# Altium footprint library GY-521.PcbLib: 1 footprints
Each footprint in its own frame and in the unit in brackets; x right, y up, seen from the top. Pads: shape width x height; smd on the part's side, far side on the other; paste and mask are expansions set on the pad; w line width, h text height; cw(c..) or ccw(c..) is an arc to the next point about the centre after c.
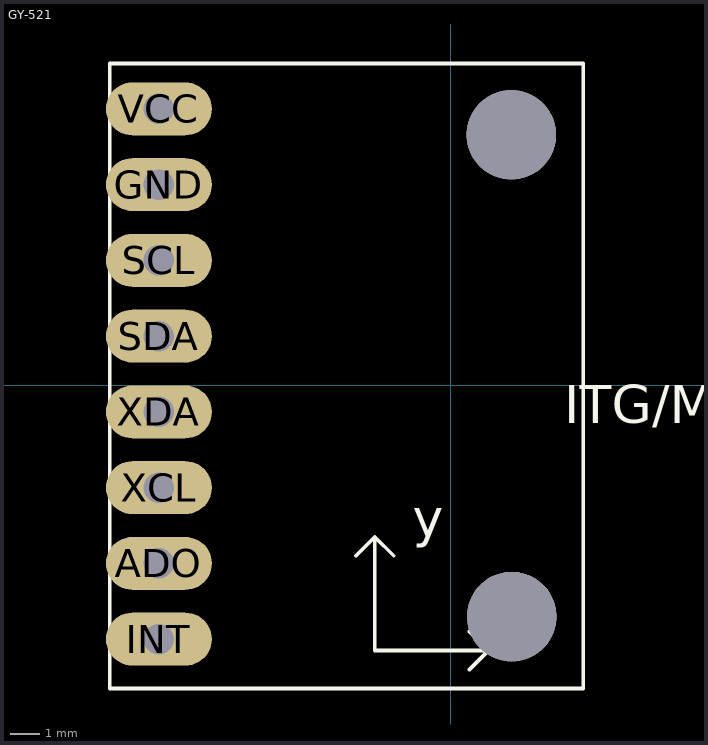
[diagram p0: the footprint, top view; thin cyan lines are the x and y axes]

## GY-521 [mil]
pads (10):
  oval 140x70 hole 40.16: ADO(-385,-235) GND(-385,265) INT(-385,-335) SCL(-385,165) SDA(-385,65) VCC(-385,365) XCL(-385,-135) XDA(-385,-35)
  round 118.11 hole 118.11 unplated: ""(80.31,330.71) ""(80.71,-305.12)
Top Overlay:
  lines w5: -125,-225 -100,-200 ; -75,-225 -100,-200 ; 25,-375 50,-350 ; 25,-325 50,-350 ; -100,-200 -100,-350 50,-350 ; -450,-400 175,-400 175,425 -450,425 -450,-400
  text "x" at 75,-350 h50
  text "y" at -50,-200 h50
  text "ITG/MPU" at 150,-50 h50
3D body "step_temp.STEP": height 118.11, standoff 0, extent -444.06,-385 174.06,414.21